# Altium schematic symbol library MIMXRT685SFVKB.Schlib: 1 symbol
Pins are listed as number, name and electrical type; pins without a type are passive.

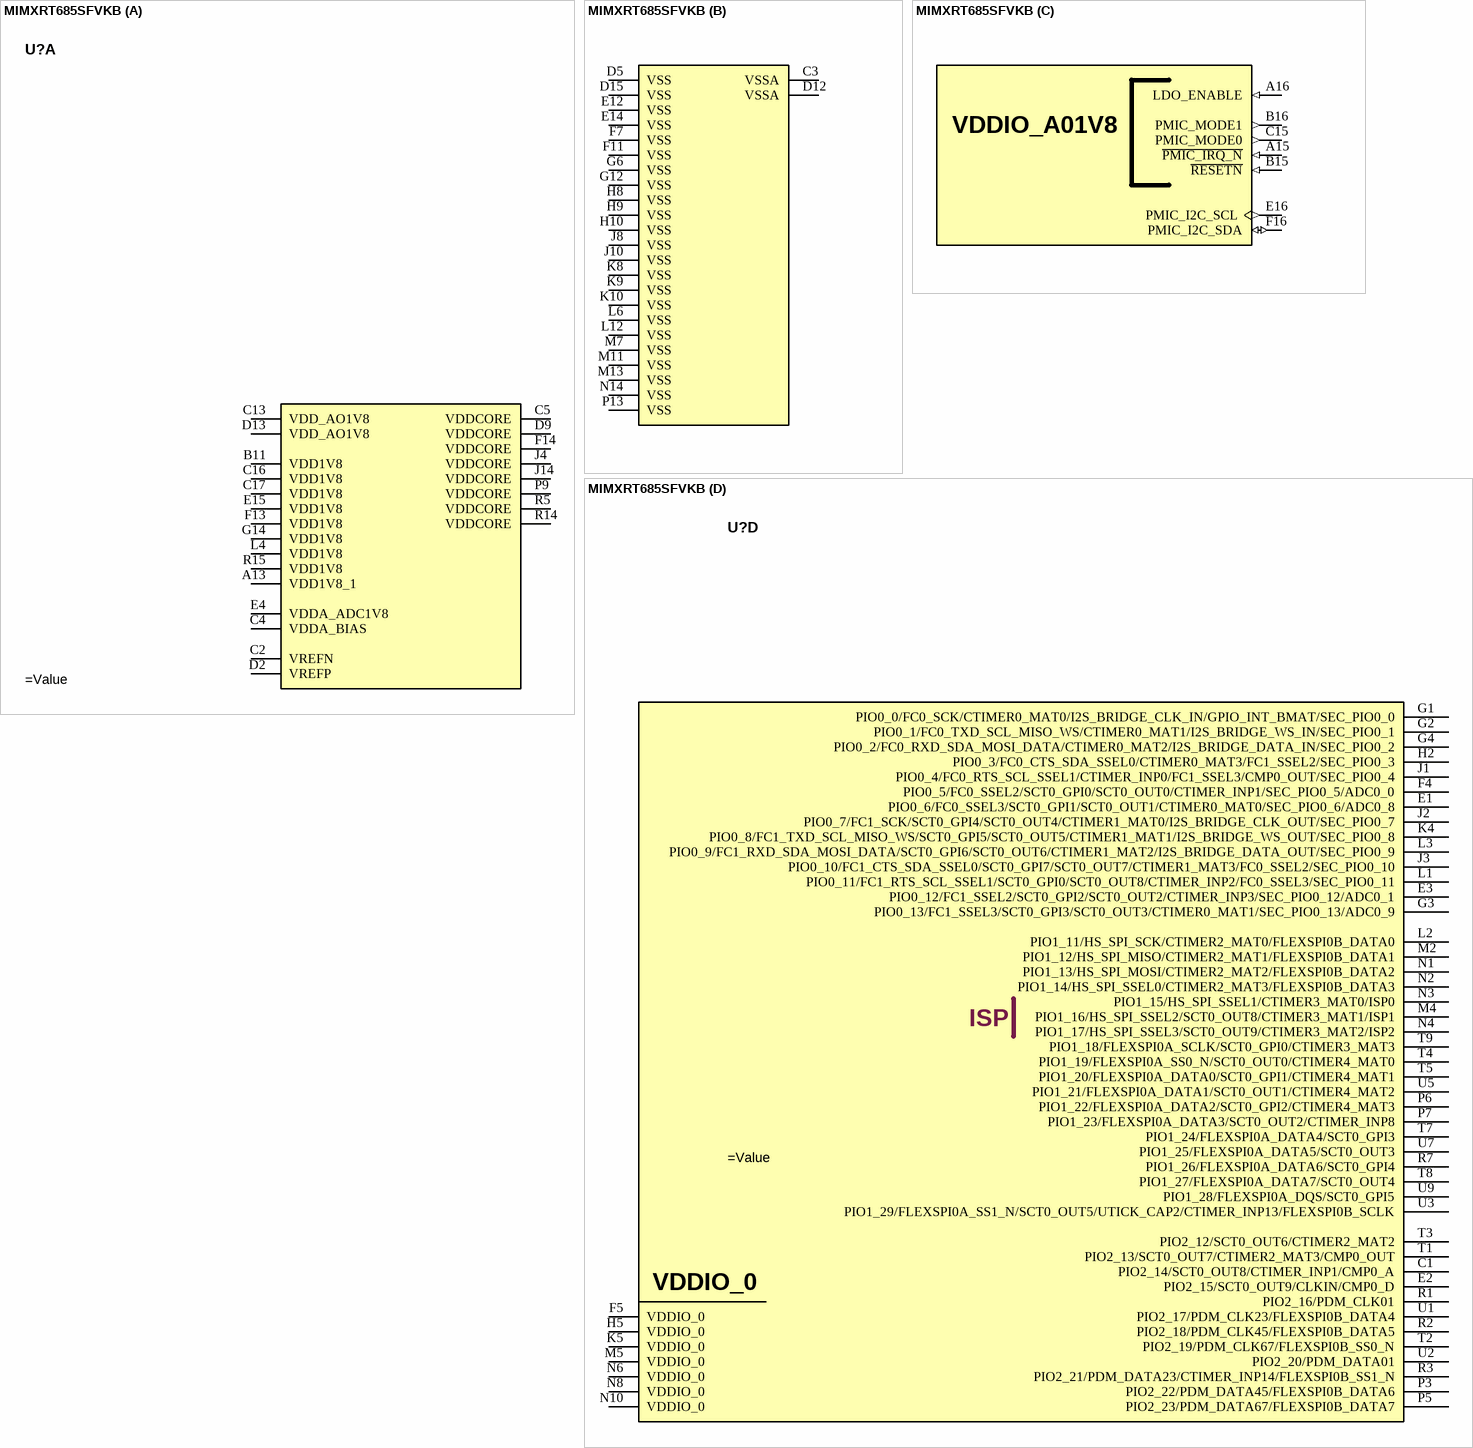
[diagram p0: symbol MIMXRT685SFVKB]

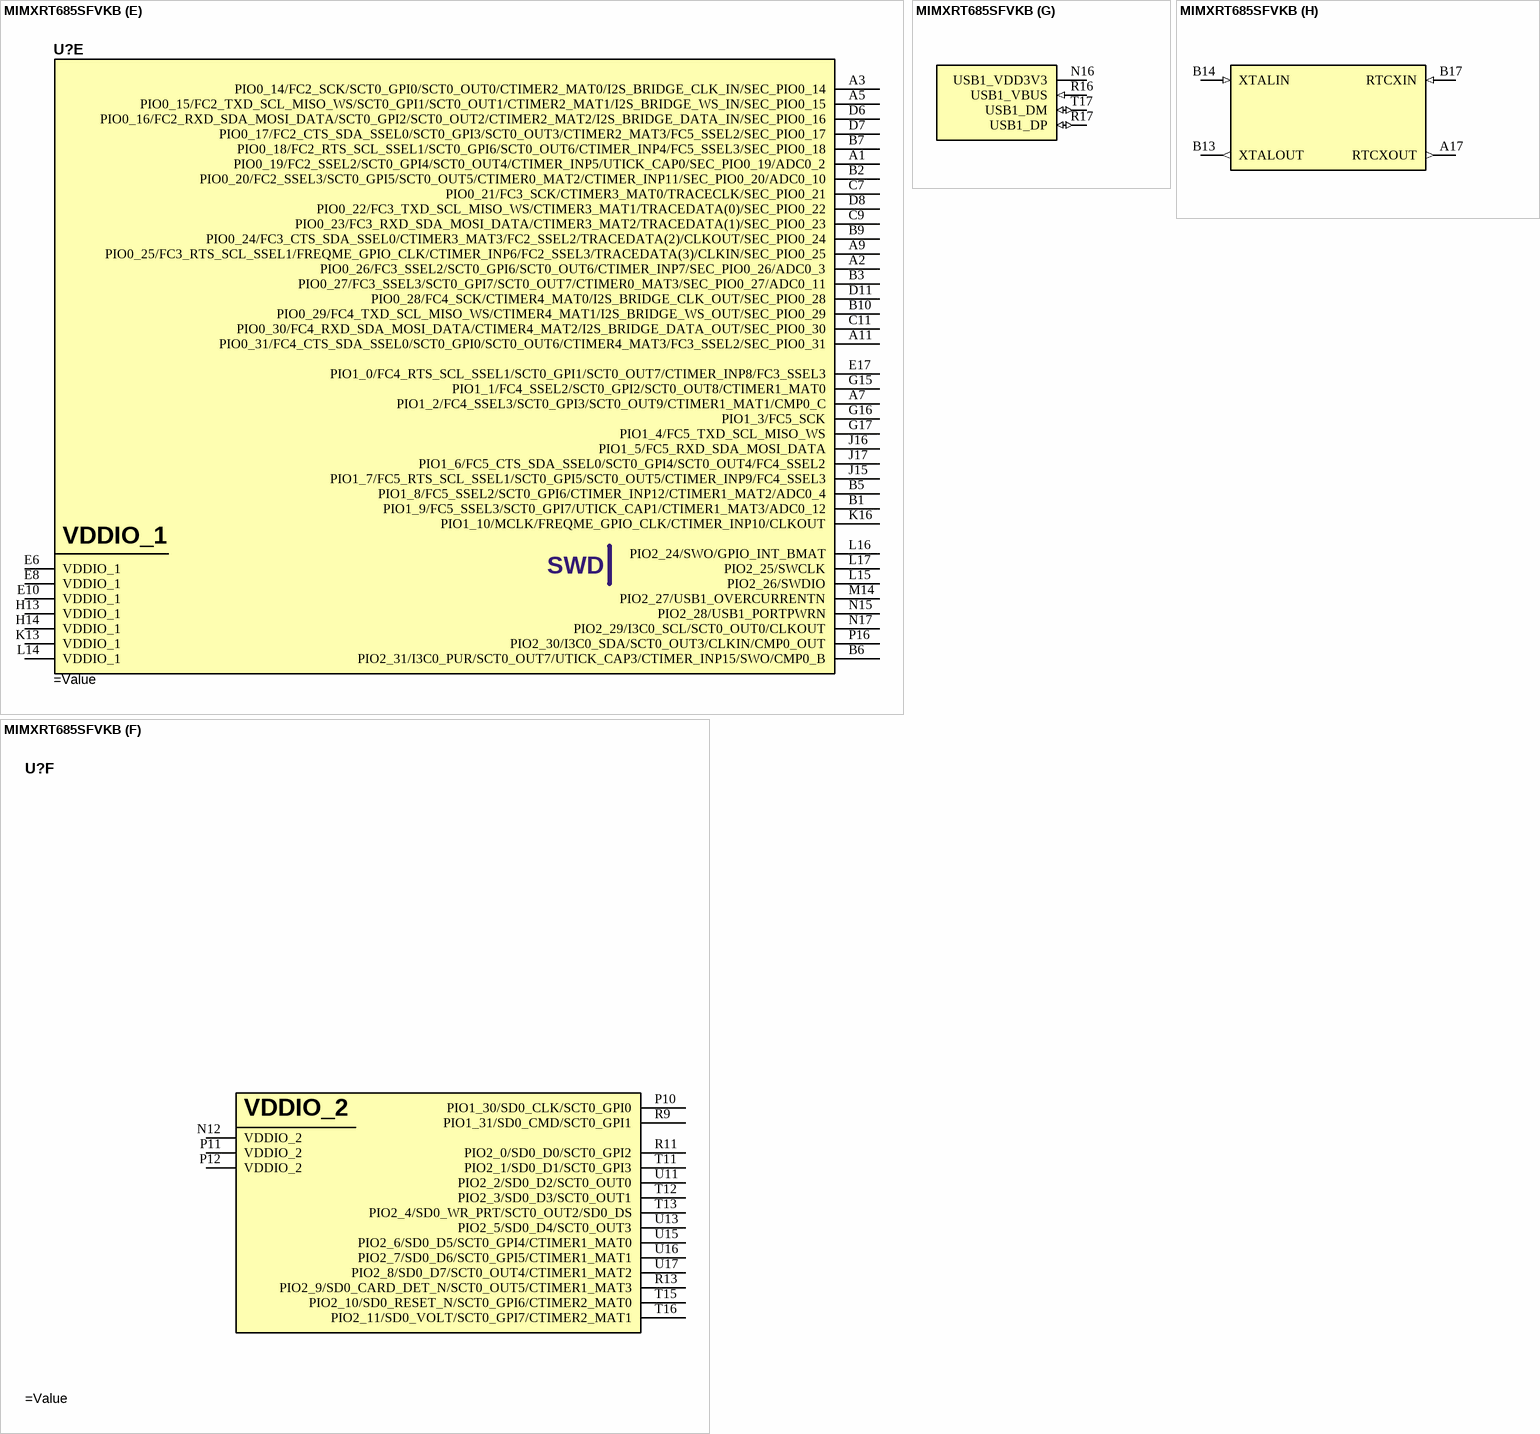
[diagram p1: symbol MIMXRT685SFVKB]

## MIMXRT685SFVKB
designator U?
SOC i.MX ARM Cortex M33 176-Pin VFBGA Tray
part A pins: A13 VDD1V8_1 (power), B11 VDD1V8 (power), C2 VREFN (power), C4 VDDA_BIAS (power), C5 VDDCORE (power), C13 VDD_AO1V8 (power), C16 VDD1V8 (power), C17 VDD1V8 (power), D2 VREFP (power), D9 VDDCORE (power), D13 VDD_AO1V8 (power), E4 VDDA_ADC1V8 (power), E15 VDD1V8 (power), F13 VDD1V8 (power), F14 VDDCORE (power), G14 VDD1V8 (power), J4 VDDCORE (power), J14 VDDCORE (power), L4 VDD1V8 (power), P9 VDDCORE (power), R5 VDDCORE (power), R14 VDDCORE (power), R15 VDD1V8 (power)
part B pins: C3 VSSA (power), D5 VSS (power), D12 VSSA (power), D15 VSS (power), E12 VSS (power), E14 VSS (power), F7 VSS (power), F11 VSS (power), G6 VSS (power), G12 VSS (power), H8 VSS (power), H9 VSS (power), H10 VSS (power), J8 VSS (power), J10 VSS (power), K8 VSS (power), K9 VSS (power), K10 VSS (power), L6 VSS (power), L12 VSS (power), M7 VSS (power), M11 VSS (power), M13 VSS (power), N14 VSS (power), P13 VSS (power)
part C pins: A15 ~{PMIC_IRQ_N} (in), A16 LDO_ENABLE (in), B15 ~{RESETN} (in), B16 PMIC_MODE1 (out), C15 PMIC_MODE0 (out), E16 PMIC_I2C_SCL (out), F16 PMIC_I2C_SDA (io)
part D pins: C1 PIO2_14/SCT0_OUT8/CTIMER_INP1/CMP0_A, E1 PIO0_6/FC0_SSEL3/SCT0_GPI1/SCT0_OUT1/CTIMER0_MAT0/SEC_PIO0_6/ADC0_8, E2 PIO2_15/SCT0_OUT9/CLKIN/CMP0_D, E3 PIO0_12/FC1_SSEL2/SCT0_GPI2/SCT0_OUT2/CTIMER_INP3/SEC_PIO0_12/ADC0_1, F4 PIO0_5/FC0_SSEL2/SCT0_GPI0/SCT0_OUT0/CTIMER_INP1/SEC_PIO0_5/ADC0_0, F5 VDDIO_0 (power), G1 PIO0_0/FC0_SCK/CTIMER0_MAT0/I2S_BRIDGE_CLK_IN/GPIO_INT_BMAT/SEC_PIO0_0, G2 PIO0_1/FC0_TXD_SCL_MISO_WS/CTIMER0_MAT1/I2S_BRIDGE_WS_IN/SEC_PIO0_1, G3 PIO0_13/FC1_SSEL3/SCT0_GPI3/SCT0_OUT3/CTIMER0_MAT1/SEC_PIO0_13/ADC0_9, G4 PIO0_2/FC0_RXD_SDA_MOSI_DATA/CTIMER0_MAT2/I2S_BRIDGE_DATA_IN/SEC_PIO0_2, H2 PIO0_3/FC0_CTS_SDA_SSEL0/CTIMER0_MAT3/FC1_SSEL2/SEC_PIO0_3, H5 VDDIO_0 (power), J1 PIO0_4/FC0_RTS_SCL_SSEL1/CTIMER_INP0/FC1_SSEL3/CMP0_OUT/SEC_PIO0_4, J2 PIO0_7/FC1_SCK/SCT0_GPI4/SCT0_OUT4/CTIMER1_MAT0/I2S_BRIDGE_CLK_OUT/SEC_PIO0_7, J3 PIO0_10/FC1_CTS_SDA_SSEL0/SCT0_GPI7/SCT0_OUT7/CTIMER1_MAT3/FC0_SSEL2/SEC_PIO0_10, K4 PIO0_8/FC1_TXD_SCL_MISO_WS/SCT0_GPI5/SCT0_OUT5/CTIMER1_MAT1/I2S_BRIDGE_WS_OUT/SEC_PIO0_8, K5 VDDIO_0 (power), L1 PIO0_11/FC1_RTS_SCL_SSEL1/SCT0_GPI0/SCT0_OUT8/CTIMER_INP2/FC0_SSEL3/SEC_PIO0_11, L2 PIO1_11/HS_SPI_SCK/CTIMER2_MAT0/FLEXSPI0B_DATA0, L3 PIO0_9/FC1_RXD_SDA_MOSI_DATA/SCT0_GPI6/SCT0_OUT6/CTIMER1_MAT2/I2S_BRIDGE_DATA_OUT/SEC_PIO0_9, M2 PIO1_12/HS_SPI_MISO/CTIMER2_MAT1/FLEXSPI0B_DATA1, M4 PIO1_16/HS_SPI_SSEL2/SCT0_OUT8/CTIMER3_MAT1/ISP1, M5 VDDIO_0 (power), N1 PIO1_13/HS_SPI_MOSI/CTIMER2_MAT2/FLEXSPI0B_DATA2, N2 PIO1_14/HS_SPI_SSEL0/CTIMER2_MAT3/FLEXSPI0B_DATA3, N3 PIO1_15/HS_SPI_SSEL1/CTIMER3_MAT0/ISP0, N4 PIO1_17/HS_SPI_SSEL3/SCT0_OUT9/CTIMER3_MAT2/ISP2, N6 VDDIO_0 (power), N8 VDDIO_0 (power), N10 VDDIO_0 (power), P3 PIO2_22/PDM_DATA45/FLEXSPI0B_DATA6, P5 PIO2_23/PDM_DATA67/FLEXSPI0B_DATA7, P6 PIO1_22/FLEXSPI0A_DATA2/SCT0_GPI2/CTIMER4_MAT3, P7 PIO1_23/FLEXSPI0A_DATA3/SCT0_OUT2/CTIMER_INP8, R1 PIO2_16/PDM_CLK01, R2 PIO2_18/PDM_CLK45/FLEXSPI0B_DATA5, R3 PIO2_21/PDM_DATA23/CTIMER_INP14/FLEXSPI0B_SS1_N, R7 PIO1_26/FLEXSPI0A_DATA6/SCT0_GPI4, T1 PIO2_13/SCT0_OUT7/CTIMER2_MAT3/CMP0_OUT, T2 PIO2_19/PDM_CLK67/FLEXSPI0B_SS0_N, T3 PIO2_12/SCT0_OUT6/CTIMER2_MAT2, T4 PIO1_19/FLEXSPI0A_SS0_N/SCT0_OUT0/CTIMER4_MAT0, T5 PIO1_20/FLEXSPI0A_DATA0/SCT0_GPI1/CTIMER4_MAT1, T7 PIO1_24/FLEXSPI0A_DATA4/SCT0_GPI3, T8 PIO1_27/FLEXSPI0A_DATA7/SCT0_OUT4, T9 PIO1_18/FLEXSPI0A_SCLK/SCT0_GPI0/CTIMER3_MAT3, U1 PIO2_17/PDM_CLK23/FLEXSPI0B_DATA4, U2 PIO2_20/PDM_DATA01, U3 PIO1_29/FLEXSPI0A_SS1_N/SCT0_OUT5/UTICK_CAP2/CTIMER_INP13/FLEXSPI0B_SCLK, U5 PIO1_21/FLEXSPI0A_DATA1/SCT0_OUT1/CTIMER4_MAT2, U7 PIO1_25/FLEXSPI0A_DATA5/SCT0_OUT3, U9 PIO1_28/FLEXSPI0A_DQS/SCT0_GPI5
part E pins: A1 PIO0_19/FC2_SSEL2/SCT0_GPI4/SCT0_OUT4/CTIMER_INP5/UTICK_CAP0/SEC_PIO0_19/ADC0_2, A2 PIO0_26/FC3_SSEL2/SCT0_GPI6/SCT0_OUT6/CTIMER_INP7/SEC_PIO0_26/ADC0_3, A3 PIO0_14/FC2_SCK/SCT0_GPI0/SCT0_OUT0/CTIMER2_MAT0/I2S_BRIDGE_CLK_IN/SEC_PIO0_14, A5 PIO0_15/FC2_TXD_SCL_MISO_WS/SCT0_GPI1/SCT0_OUT1/CTIMER2_MAT1/I2S_BRIDGE_WS_IN/SEC_PIO0_15, A7 PIO1_2/FC4_SSEL3/SCT0_GPI3/SCT0_OUT9/CTIMER1_MAT1/CMP0_C, A9 PIO0_25/FC3_RTS_SCL_SSEL1/FREQME_GPIO_CLK/CTIMER_INP6/FC2_SSEL3/TRACEDATA(3)/CLKIN/SEC_PIO0_25, A11 PIO0_31/FC4_CTS_SDA_SSEL0/SCT0_GPI0/SCT0_OUT6/CTIMER4_MAT3/FC3_SSEL2/SEC_PIO0_31, B1 PIO1_9/FC5_SSEL3/SCT0_GPI7/UTICK_CAP1/CTIMER1_MAT3/ADC0_12, B2 PIO0_20/FC2_SSEL3/SCT0_GPI5/SCT0_OUT5/CTIMER0_MAT2/CTIMER_INP11/SEC_PIO0_20/ADC0_10, B3 PIO0_27/FC3_SSEL3/SCT0_GPI7/SCT0_OUT7/CTIMER0_MAT3/SEC_PIO0_27/ADC0_11, B5 PIO1_8/FC5_SSEL2/SCT0_GPI6/CTIMER_INP12/CTIMER1_MAT2/ADC0_4, B6 PIO2_31/I3C0_PUR/SCT0_OUT7/UTICK_CAP3/CTIMER_INP15/SWO/CMP0_B, B7 PIO0_18/FC2_RTS_SCL_SSEL1/SCT0_GPI6/SCT0_OUT6/CTIMER_INP4/FC5_SSEL3/SEC_PIO0_18, B9 PIO0_24/FC3_CTS_SDA_SSEL0/CTIMER3_MAT3/FC2_SSEL2/TRACEDATA(2)/CLKOUT/SEC_PIO0_24, B10 PIO0_29/FC4_TXD_SCL_MISO_WS/CTIMER4_MAT1/I2S_BRIDGE_WS_OUT/SEC_PIO0_29, C7 PIO0_21/FC3_SCK/CTIMER3_MAT0/TRACECLK/SEC_PIO0_21, C9 PIO0_23/FC3_RXD_SDA_MOSI_DATA/CTIMER3_MAT2/TRACEDATA(1)/SEC_PIO0_23, C11 PIO0_30/FC4_RXD_SDA_MOSI_DATA/CTIMER4_MAT2/I2S_BRIDGE_DATA_OUT/SEC_PIO0_30, D6 PIO0_16/FC2_RXD_SDA_MOSI_DATA/SCT0_GPI2/SCT0_OUT2/CTIMER2_MAT2/I2S_BRIDGE_DATA_IN/SEC_PIO0_16, D7 PIO0_17/FC2_CTS_SDA_SSEL0/SCT0_GPI3/SCT0_OUT3/CTIMER2_MAT3/FC5_SSEL2/SEC_PIO0_17, D8 PIO0_22/FC3_TXD_SCL_MISO_WS/CTIMER3_MAT1/TRACEDATA(0)/SEC_PIO0_22, D11 PIO0_28/FC4_SCK/CTIMER4_MAT0/I2S_BRIDGE_CLK_OUT/SEC_PIO0_28, E6 VDDIO_1 (power), E8 VDDIO_1 (power), E10 VDDIO_1 (power), E17 PIO1_0/FC4_RTS_SCL_SSEL1/SCT0_GPI1/SCT0_OUT7/CTIMER_INP8/FC3_SSEL3, G15 PIO1_1/FC4_SSEL2/SCT0_GPI2/SCT0_OUT8/CTIMER1_MAT0, G16 PIO1_3/FC5_SCK, G17 PIO1_4/FC5_TXD_SCL_MISO_WS, H13 VDDIO_1 (power), H14 VDDIO_1 (power), J15 PIO1_7/FC5_RTS_SCL_SSEL1/SCT0_GPI5/SCT0_OUT5/CTIMER_INP9/FC4_SSEL3, J16 PIO1_5/FC5_RXD_SDA_MOSI_DATA, J17 PIO1_6/FC5_CTS_SDA_SSEL0/SCT0_GPI4/SCT0_OUT4/FC4_SSEL2, K13 VDDIO_1 (power), K16 PIO1_10/MCLK/FREQME_GPIO_CLK/CTIMER_INP10/CLKOUT, L14 VDDIO_1 (power), L15 PIO2_26/SWDIO, L16 PIO2_24/SWO/GPIO_INT_BMAT, L17 PIO2_25/SWCLK, M14 PIO2_27/USB1_OVERCURRENTN, N15 PIO2_28/USB1_PORTPWRN, N17 PIO2_29/I3C0_SCL/SCT0_OUT0/CLKOUT, P16 PIO2_30/I3C0_SDA/SCT0_OUT3/CLKIN/CMP0_OUT
part F pins: N12 VDDIO_2 (power), P10 PIO1_30/SD0_CLK/SCT0_GPI0, P11 VDDIO_2 (power), P12 VDDIO_2 (power), R9 PIO1_31/SD0_CMD/SCT0_GPI1, R11 PIO2_0/SD0_D0/SCT0_GPI2, R13 PIO2_9/SD0_CARD_DET_N/SCT0_OUT5/CTIMER1_MAT3, T11 PIO2_1/SD0_D1/SCT0_GPI3, T12 PIO2_3/SD0_D3/SCT0_OUT1, T13 PIO2_4/SD0_WR_PRT/SCT0_OUT2/SD0_DS, T15 PIO2_10/SD0_RESET_N/SCT0_GPI6/CTIMER2_MAT0, T16 PIO2_11/SD0_VOLT/SCT0_GPI7/CTIMER2_MAT1, U11 PIO2_2/SD0_D2/SCT0_OUT0, U13 PIO2_5/SD0_D4/SCT0_OUT3, U15 PIO2_6/SD0_D5/SCT0_GPI4/CTIMER1_MAT0, U16 PIO2_7/SD0_D6/SCT0_GPI5/CTIMER1_MAT1, U17 PIO2_8/SD0_D7/SCT0_OUT4/CTIMER1_MAT2
part G pins: N16 USB1_VDD3V3 (power), R16 USB1_VBUS (in), R17 USB1_DP (io), T17 USB1_DM (io)
part H pins: A17 RTCXOUT (out), B13 XTALOUT (out), B14 XTALIN (in), B17 RTCXIN (in)
part C text: VDDIO_A01V8
part D text: ISP
part E text: SWD